# Altium footprint library con-molex-micro-fit-3_0_2.PCBLIB: 194 footprints (part 7 of 13)
Each footprint in its own frame and in the unit in brackets; x right, y up, seen from the top. Pads: shape width x height; smd on the part's side, far side on the other; paste and mask are expansions set on the pad; w line width, h text height; cw(c..) or ccw(c..) is an arc to the next point about the centre after c.
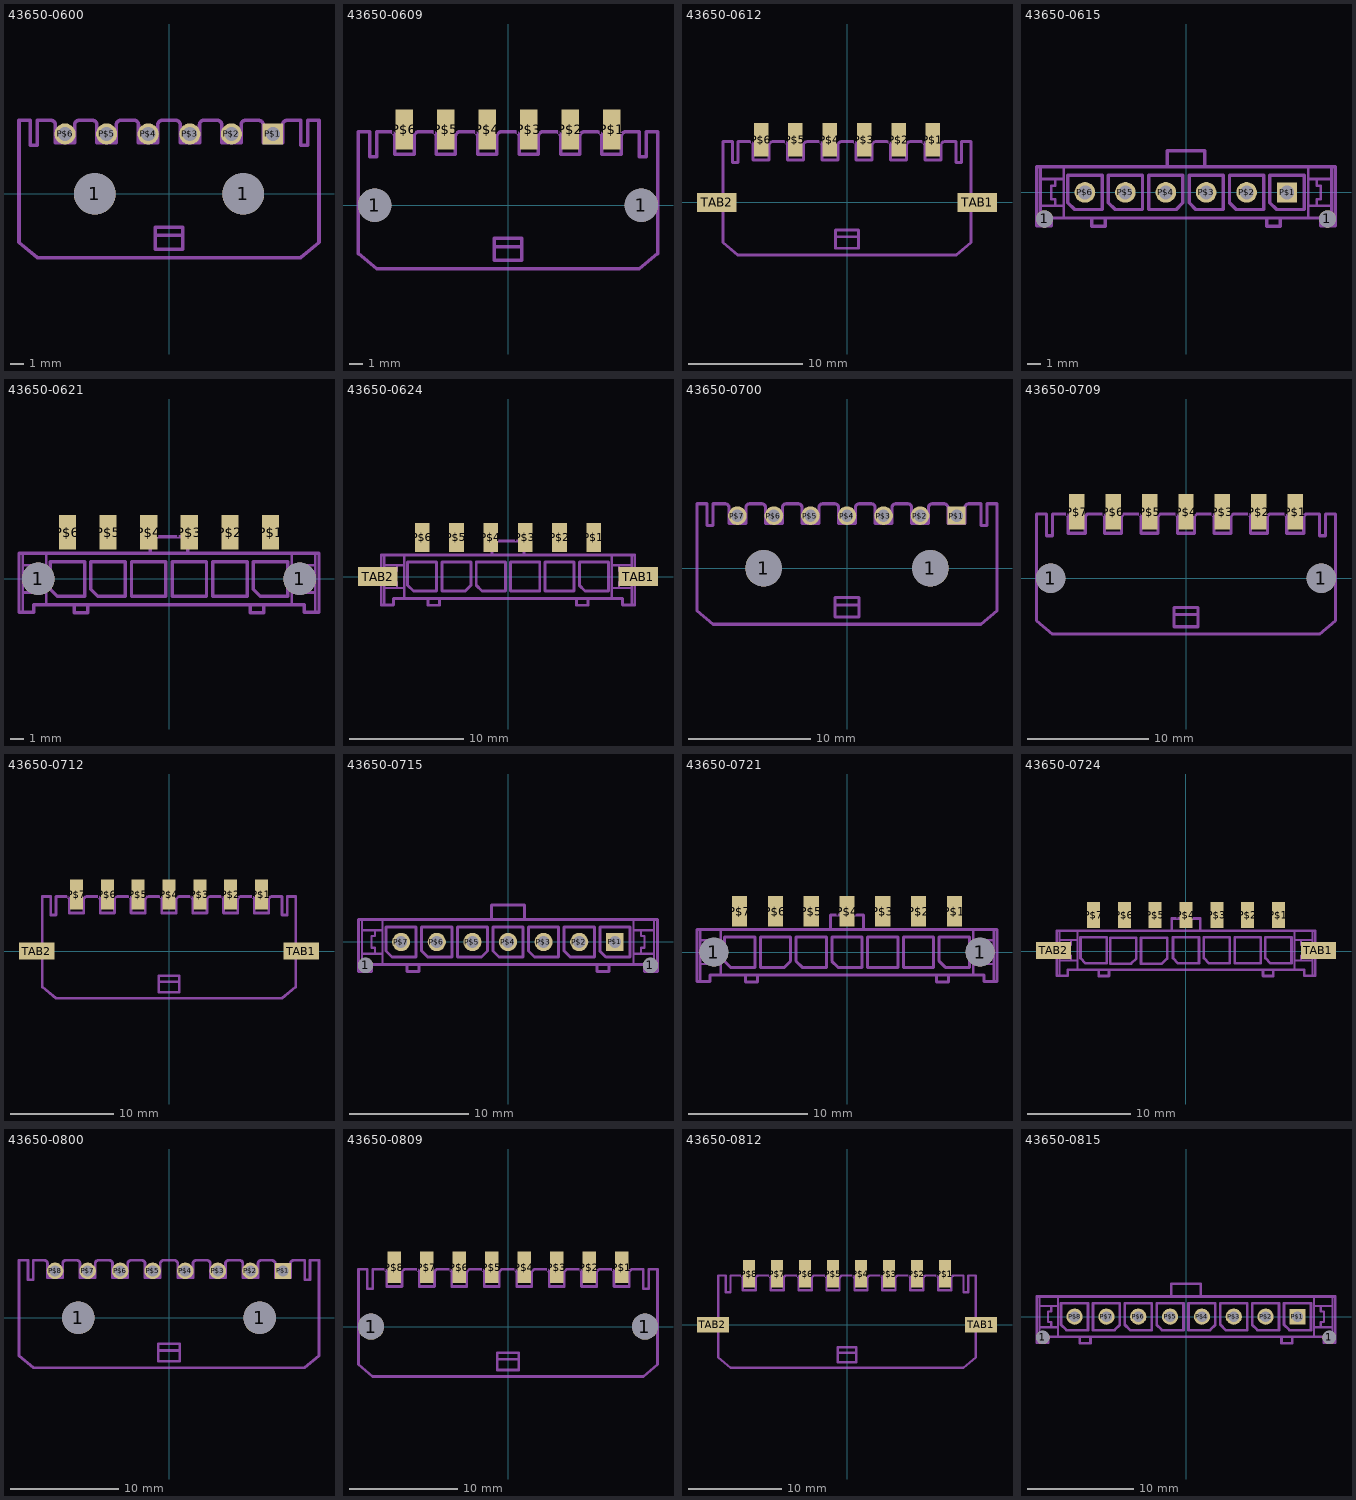
[diagram p6: the footprints below, top view; thin cyan lines are the x and y axes]

## 43650-0600 [mm]
pads (8):
  round 3 hole 3 unplated: 1(-5.35,0) 1(5.35,0)
  rect 1.482x1.482 / inner rect 1.524x1.524 / far side rect 1.482x1.482 hole 1.02: P$1(7.5,4.32)
  round 1.53 / inner round 1.524 / far side round 1.53 hole 1.02: P$2(4.5,4.32) P$3(1.5,4.32) P$4(-1.5,4.32) P$5(-4.5,4.32) P$6(-7.5,4.32)
Mechanical 22:
  lines w0.254: -1,-3 -1,-4 1,-4 1,-3 ; -1,-3 -1,-2.4 1,-2.4 1,-3 ; -1,-3 1,-3 ; -10.82,-3.5 -10.82,5.3 -10,5.3 -10,3.5 -9.5,3.5 -9.5,5.3 -8.5,5.3 cw(c-8.5,5) -8.2,5 -8.2,3.7 -6.8,3.7 -6.8,5 cw(c-6.5,5) -6.5,5.3 -5.5,5.3 cw(c-5.5,5) -5.2,5 -5.2,3.7 -3.8,3.7 -3.8,5 cw(c-3.5,5) -3.5,5.3 -2.5,5.3 cw(c-2.5,5) -2.2,5 -2.2,3.7 -0.8,3.7 -0.8,5 cw(c-0.5,5) -0.5,5.3 0.5,5.3 cw(c0.5,5) 0.8,5 0.8,3.7 2.2,3.7 2.2,5 cw(c2.5,5) 2.5,5.3 3.5,5.3 cw(c3.5,5) 3.8,5 3.8,3.7 5.2,3.7 5.2,5 cw(c5.5,5) 5.5,5.3 6.5,5.3 cw(c6.45,4.95) 6.8,5 6.8,3.7 8.2,3.7 8.2,5 cw(c8.5,5) 8.5,5.3 9.5,5.3 9.5,3.5 10,3.5 10,5.3 10.82,5.3 10.82,-3.5 9.5,-4.6 -9.5,-4.6 -10.82,-3.5

## 43650-0609 [mm]
pads (8):
  round 2.41 hole 2.41 unplated: 1(-9.65,0) 1(9.65,0)
  rect 1.27x2.92 smd: P$1(7.5,5.48) P$2(4.5,5.48) P$3(1.5,5.48) P$4(-1.5,5.48) P$5(-4.5,5.48) P$6(-7.5,5.48)
Mechanical 22:
  lines w0.254: -1,-3 -1,-4 1,-4 1,-3 ; -1,-3 -1,-2.4 1,-2.4 1,-3 ; -1,-3 1,-3 ; -10.82,-3.5 -10.82,5.3 -10,5.3 -10,3.5 -9.5,3.5 -9.5,5.3 -8.5,5.3 cw(c-8.5,5) -8.2,5 -8.2,3.7 -6.8,3.7 -6.8,5 cw(c-6.5,5) -6.5,5.3 -5.5,5.3 cw(c-5.5,5) -5.2,5 -5.2,3.7 -3.8,3.7 -3.8,5 cw(c-3.5,5) -3.5,5.3 -2.5,5.3 cw(c-2.5,5) -2.2,5 -2.2,3.7 -0.8,3.7 -0.8,5 cw(c-0.5,5) -0.5,5.3 0.5,5.3 cw(c0.5,5) 0.8,5 0.8,3.7 2.2,3.7 2.2,5 cw(c2.5,5) 2.5,5.3 3.5,5.3 cw(c3.5,5) 3.8,5 3.8,3.7 5.2,3.7 5.2,5 cw(c5.5,5) 5.5,5.3 6.5,5.3 cw(c6.45,4.95) 6.8,5 6.8,3.7 8.2,3.7 8.2,5 cw(c8.5,5) 8.5,5.3 9.5,5.3 9.5,3.5 10,3.5 10,5.3 10.82,5.3 10.82,-3.5 9.5,-4.6 -9.5,-4.6 -10.82,-3.5

## 43650-0612 [mm]
pads (8):
  rect 1.27x2.92 smd: P$1(7.5,5.48) P$2(4.5,5.48) P$3(1.5,5.48) P$4(-1.5,5.48) P$5(-4.5,5.48) P$6(-7.5,5.48)
  rect 3.43x1.65 smd: TAB1(11.38,0) TAB2(-11.38,0)
Mechanical 22:
  lines w0.254: -1,-3 -1,-4 1,-4 1,-3 ; -1,-3 -1,-2.4 1,-2.4 1,-3 ; -1,-3 1,-3 ; -10.82,-3.5 -10.82,5.3 -10,5.3 -10,3.5 -9.5,3.5 -9.5,5.3 -8.5,5.3 cw(c-8.5,5) -8.2,5 -8.2,3.7 -6.8,3.7 -6.8,5 cw(c-6.5,5) -6.5,5.3 -5.5,5.3 cw(c-5.5,5) -5.2,5 -5.2,3.7 -3.8,3.7 -3.8,5 cw(c-3.5,5) -3.5,5.3 -2.5,5.3 cw(c-2.5,5) -2.2,5 -2.2,3.7 -0.8,3.7 -0.8,5 cw(c-0.5,5) -0.5,5.3 0.5,5.3 cw(c0.5,5) 0.8,5 0.8,3.7 2.2,3.7 2.2,5 cw(c2.5,5) 2.5,5.3 3.5,5.3 cw(c3.5,5) 3.8,5 3.8,3.7 5.2,3.7 5.2,5 cw(c5.5,5) 5.5,5.3 6.5,5.3 cw(c6.45,4.95) 6.8,5 6.8,3.7 8.2,3.7 8.2,5 cw(c8.5,5) 8.5,5.3 9.5,5.3 9.5,3.5 10,3.5 10,5.3 10.82,5.3 10.82,-3.5 9.5,-4.6 -9.5,-4.6 -10.82,-3.5

## 43650-0615 [mm]
pads (8):
  round 1.27 hole 1.27 unplated: 1(-10.5,-1.96) 1(10.5,-1.96)
  rect 1.482x1.482 / inner rect 1.524x1.524 / far side rect 1.482x1.482 hole 1.02: P$1(7.5,0)
  round 1.53 / inner round 1.524 / far side round 1.53 hole 1.02: P$2(4.5,0) P$3(1.5,0) P$4(-1.5,0) P$5(-4.5,0) P$6(-7.5,0)
Mechanical 22:
  lines w0.2: -10.8,-2.47 -10.8,-1 ; -10.8,1.9 -10.8,1 ; -9.07,-1.9 -9.07,-1 ; -9.07,1.9 -9.07,1 ; 9.07,-1.9 9.07,-1 ; 9.07,1.9 9.07,1 ; 10.8,-2.47 10.8,-1 ; 10.8,1.9 10.8,1 ; -10.8,-1 -10.8,1 ; -10.8,-1 -9.7,-1 ; -10.8,1 -9.7,1 ; -9.7,-1 -9.07,-1 ; -9.7,-1 -9.7,-0.5 -10,-0.5 -10,0.5 -9.7,0.5 -9.7,1 ; -9.7,1 -9.07,1 ; -9.07,-1 -9.07,1 ; 9.07,-1 9.07,1 ; 9.07,-1 9.7,-1 ; 9.07,1 9.7,1 ; 9.7,-1 10.8,-1 ; 9.7,-1 9.7,-0.5 10,-0.5 10,0.5 9.7,0.5 9.7,1 ; 9.7,1 10.8,1 ; 10.8,-1 10.8,1
  lines w0.254: -7,-1.9 -6,-1.9 ; -7,-1.9 -9.07,-1.9 -10,-1.9 -10,-2.47 -10.8,-2.47 -11.075,-2.47 -11.075,1.9 -10.8,1.9 -9.07,1.9 -1.4,1.9 ; -7,-1.9 -7,-2.5 -6,-2.5 -6,-1.9 ; -6,-1.9 6,-1.9 ; -1.4,1.9 1.4,1.9 ; -1.4,1.9 -1.4,3.1 1.4,3.1 1.4,1.9 ; 1.4,1.9 9.07,1.9 10.8,1.9 11.075,1.9 11.075,-2.47 10.8,-2.47 10,-2.47 10,-1.9 9.07,-1.9 7,-1.9 ; 6,-1.9 7,-1.9 ; 6,-1.9 6,-2.5 7,-2.5 7,-1.9 ; -8.77,-0.762 -8.77,1.27 -6.23,1.27 -6.23,-1.27 -8.262,-1.27 -8.77,-0.762 ; -5.77,-0.762 -5.77,1.27 -3.23,1.27 -3.23,-1.27 -5.262,-1.27 -5.77,-0.762 ; -2.77,-1.27 -2.77,1.27 -0.23,1.27 -0.23,-0.762 -0.738,-1.27 -2.77,-1.27 ; 0.23,-0.762 0.23,1.27 2.77,1.27 2.77,-1.27 0.738,-1.27 0.23,-0.762 ; 3.23,-0.762 3.23,1.27 5.77,1.27 5.77,-1.27 3.738,-1.27 3.23,-0.762 ; 6.23,-0.762 6.23,1.27 8.77,1.27 8.77,-1.27 6.738,-1.27 6.23,-0.762

## 43650-0621 [mm]
pads (8):
  round 2.41 hole 2.41 unplated: 1(-9.65,0) 1(9.65,0)
  rect 1.27x2.54 smd: P$1(7.5,3.43) P$2(4.5,3.43) P$3(1.5,3.43) P$4(-1.5,3.43) P$5(-4.5,3.43) P$6(-7.5,3.43)
Mechanical 22:
  lines w0.2: -10.8,-2.47 -10.8,-1 ; -10.8,1.9 -10.8,1 ; -9.07,-1.9 -9.07,-1 ; -9.07,1.9 -9.07,1 ; 9.07,-1.9 9.07,-1 ; 9.07,1.9 9.07,1 ; 10.8,-2.47 10.8,-1 ; 10.8,1.9 10.8,1 ; -10.8,-1 -10.8,1 ; -10.8,-1 -9.7,-1 ; -10.8,1 -9.7,1 ; -9.7,-1 -9.07,-1 ; -9.7,-1 -9.7,-0.5 -10,-0.5 -10,0.5 -9.7,0.5 -9.7,1 ; -9.7,1 -9.07,1 ; -9.07,-1 -9.07,1 ; 9.07,-1 9.07,1 ; 9.07,-1 9.7,-1 ; 9.07,1 9.7,1 ; 9.7,-1 10.8,-1 ; 9.7,-1 9.7,-0.5 10,-0.5 10,0.5 9.7,0.5 9.7,1 ; 9.7,1 10.8,1 ; 10.8,-1 10.8,1
  lines w0.254: -7,-1.9 -6,-1.9 ; -7,-1.9 -9.07,-1.9 -10,-1.9 -10,-2.47 -10.8,-2.47 -11.075,-2.47 -11.075,1.9 -10.8,1.9 -9.07,1.9 -1.4,1.9 ; -7,-1.9 -7,-2.5 -6,-2.5 -6,-1.9 ; -6,-1.9 6,-1.9 ; -1.4,1.9 1.4,1.9 ; -1.4,1.9 -1.4,3.1 1.4,3.1 1.4,1.9 ; 1.4,1.9 9.07,1.9 10.8,1.9 11.075,1.9 11.075,-2.47 10.8,-2.47 10,-2.47 10,-1.9 9.07,-1.9 7,-1.9 ; 6,-1.9 7,-1.9 ; 6,-1.9 6,-2.5 7,-2.5 7,-1.9 ; -8.77,-0.762 -8.77,1.27 -6.23,1.27 -6.23,-1.27 -8.262,-1.27 -8.77,-0.762 ; -5.77,-0.762 -5.77,1.27 -3.23,1.27 -3.23,-1.27 -5.262,-1.27 -5.77,-0.762 ; -2.77,-1.27 -0.23,-1.27 -0.23,1.27 -2.77,1.27 -2.77,-1.27 ; 0.23,-1.27 2.77,-1.27 2.77,1.27 0.23,1.27 0.23,-1.27 ; 3.23,-1.27 5.77,-1.27 5.77,1.27 3.23,1.27 3.23,-1.27 ; 6.23,-0.762 6.23,1.27 8.77,1.27 8.77,-1.27 6.738,-1.27 6.23,-0.762

## 43650-0624 [mm]
pads (8):
  rect 1.27x2.54 smd: P$1(7.5,3.43) P$2(4.5,3.43) P$3(1.5,3.43) P$4(-1.5,3.43) P$5(-4.5,3.43) P$6(-7.5,3.43)
  rect 3.43x1.65 smd: TAB1(11.39,0) TAB2(-11.39,0)
Mechanical 22:
  lines w0.2: -10.8,-2.47 -10.8,-1 ; -10.8,1.9 -10.8,1 ; -9.07,-1.9 -9.07,-1 ; -9.07,1.9 -9.07,1 ; 9.07,-1.9 9.07,-1 ; 9.07,1.9 9.07,1 ; 10.8,-2.47 10.8,-1 ; 10.8,1.9 10.8,1 ; -10.8,-1 -10.8,1 ; -10.8,-1 -9.7,-1 ; -10.8,1 -9.7,1 ; -9.7,-1 -9.07,-1 ; -9.7,-1 -9.7,-0.5 -10,-0.5 -10,0.5 -9.7,0.5 -9.7,1 ; -9.7,1 -9.07,1 ; -9.07,-1 -9.07,1 ; 9.07,-1 9.07,1 ; 9.07,-1 9.7,-1 ; 9.07,1 9.7,1 ; 9.7,-1 10.8,-1 ; 9.7,-1 9.7,-0.5 10,-0.5 10,0.5 9.7,0.5 9.7,1 ; 9.7,1 10.8,1 ; 10.8,-1 10.8,1
  lines w0.254: -7,-1.9 -6,-1.9 ; -7,-1.9 -9.07,-1.9 -10,-1.9 -10,-2.47 -10.8,-2.47 -11.075,-2.47 -11.075,1.9 -10.8,1.9 -9.07,1.9 -1.4,1.9 ; -7,-1.9 -7,-2.5 -6,-2.5 -6,-1.9 ; -6,-1.9 6,-1.9 ; -1.4,1.9 1.4,1.9 ; -1.4,1.9 -1.4,3.1 1.4,3.1 1.4,1.9 ; 1.4,1.9 9.07,1.9 10.8,1.9 11.075,1.9 11.075,-2.47 10.8,-2.47 10,-2.47 10,-1.9 9.07,-1.9 7,-1.9 ; 6,-1.9 7,-1.9 ; 6,-1.9 6,-2.5 7,-2.5 7,-1.9 ; -8.77,-0.762 -8.77,1.27 -6.23,1.27 -6.23,-1.27 -8.262,-1.27 -8.77,-0.762 ; -2.77,-0.762 -2.77,1.27 -0.23,1.27 -0.23,-1.27 -2.262,-1.27 -2.77,-0.762 ; 0.23,-1.27 2.77,-1.27 2.77,1.27 0.23,1.27 0.23,-1.27 ; 3.23,-1.27 5.77,-1.27 5.77,1.27 3.23,1.27 3.23,-1.27 ; 6.23,-0.762 6.23,1.27 8.77,1.27 8.77,-1.27 6.738,-1.27 6.23,-0.762
Mechanical 23:
  lines w0.254: -5.77,-1.27 -5.77,1.27 -3.23,1.27 -3.23,-0.762 -3.738,-1.27 -5.77,-1.27

## 43650-0700 [mm]
pads (9):
  round 3 hole 3 unplated: 1(-6.85,0) 1(6.85,0)
  rect 1.482x1.482 / inner rect 1.524x1.524 / far side rect 1.482x1.482 hole 1.02: P$1(9,4.32)
  round 1.53 / inner round 1.524 / far side round 1.53 hole 1.02: P$2(6,4.32) P$3(3,4.32) P$4(0,4.32) P$5(-3,4.32) P$6(-6,4.32) P$7(-9,4.32)
Mechanical 22:
  lines w0.254: -1,-3 -1,-4 1,-4 1,-3 ; -1,-3 -1,-2.4 1,-2.4 1,-3 ; -1,-3 1,-3 ; -12.32,-3.5 -12.32,5.3 -11.5,5.3 -11.5,3.5 -11,3.5 -11,5.3 -10,5.3 cw(c-10,5) -9.7,5 -9.7,3.7 -8.3,3.7 -8.3,5 cw(c-8,5) -8,5.3 -7,5.3 cw(c-7,5) -6.7,5 -6.7,3.7 -5.3,3.7 -5.3,5 cw(c-5,5) -5,5.3 -4,5.3 cw(c-4,5) -3.7,5 -3.7,3.7 -2.3,3.7 -2.3,5 cw(c-2,5) -2,5.3 -1,5.3 cw(c-1,5) -0.7,5 -0.7,3.7 0.7,3.7 0.7,5 cw(c1,5) 1,5.3 2,5.3 cw(c2,5) 2.3,5 2.3,3.7 3.7,3.7 3.7,5 cw(c4,5) 4,5.3 5,5.3 cw(c5,5) 5.3,5 5.3,3.7 6.7,3.7 6.7,5 cw(c7,5) 7,5.3 8,5.3 cw(c7.95,4.95) 8.3,5 8.3,3.7 9.7,3.7 9.7,5 cw(c10,5) 10,5.3 11,5.3 11,3.5 11.5,3.5 11.5,5.3 12.32,5.3 12.32,-3.5 11,-4.6 -11,-4.6 -12.32,-3.5

## 43650-0709 [mm]
pads (9):
  round 2.41 hole 2.41 unplated: 1(-11.15,0) 1(11.15,0)
  rect 1.27x2.92 smd: P$1(9,5.48) P$2(6,5.48) P$3(3,5.48) P$4(0,5.48) P$5(-3,5.48) P$6(-6,5.48) P$7(-9,5.48)
Mechanical 22:
  lines w0.254: -1,-3 -1,-4 1,-4 1,-3 ; -1,-3 -1,-2.4 1,-2.4 1,-3 ; -1,-3 1,-3 ; -12.32,-3.5 -12.32,5.3 -11.5,5.3 -11.5,3.5 -11,3.5 -11,5.3 -10,5.3 cw(c-10,5) -9.7,5 -9.7,3.7 -8.3,3.7 -8.3,5 cw(c-8,5) -8,5.3 -7,5.3 cw(c-7,5) -6.7,5 -6.7,3.7 -5.3,3.7 -5.3,5 cw(c-5,5) -5,5.3 -4,5.3 cw(c-4,5) -3.7,5 -3.7,3.7 -2.3,3.7 -2.3,5 cw(c-2,5) -2,5.3 -1,5.3 cw(c-1,5) -0.7,5 -0.7,3.7 0.7,3.7 0.7,5 cw(c1,5) 1,5.3 2,5.3 cw(c2,5) 2.3,5 2.3,3.7 3.7,3.7 3.7,5 cw(c4,5) 4,5.3 5,5.3 cw(c5,5) 5.3,5 5.3,3.7 6.7,3.7 6.7,5 cw(c7,5) 7,5.3 8,5.3 cw(c7.95,4.95) 8.3,5 8.3,3.7 9.7,3.7 9.7,5 cw(c10,5) 10,5.3 11,5.3 11,3.5 11.5,3.5 11.5,5.3 12.32,5.3 12.32,-3.5 11,-4.6 -11,-4.6 -12.32,-3.5

## 43650-0712 [mm]
pads (9):
  rect 1.27x2.92 smd: P$1(9,5.48) P$2(6,5.48) P$3(3,5.48) P$4(0,5.48) P$5(-3,5.48) P$6(-6,5.48) P$7(-9,5.48)
  rect 3.43x1.65 smd: TAB1(12.88,0) TAB2(-12.88,0)
Mechanical 22:
  lines w0.254: -1,-3 -1,-4 1,-4 1,-3 ; -1,-3 -1,-2.4 1,-2.4 1,-3 ; -1,-3 1,-3 ; -12.32,-3.5 -12.32,5.3 -11.5,5.3 -11.5,3.5 -11,3.5 -11,5.3 -10,5.3 cw(c-10,5) -9.7,5 -9.7,3.7 -8.3,3.7 -8.3,5 cw(c-8,5) -8,5.3 -7,5.3 cw(c-7,5) -6.7,5 -6.7,3.7 -5.3,3.7 -5.3,5 cw(c-5,5) -5,5.3 -4,5.3 cw(c-4,5) -3.7,5 -3.7,3.7 -2.3,3.7 -2.3,5 cw(c-2,5) -2,5.3 -1,5.3 cw(c-1,5) -0.7,5 -0.7,3.7 0.7,3.7 0.7,5 cw(c1,5) 1,5.3 2,5.3 cw(c2,5) 2.3,5 2.3,3.7 3.7,3.7 3.7,5 cw(c4,5) 4,5.3 5,5.3 cw(c5,5) 5.3,5 5.3,3.7 6.7,3.7 6.7,5 cw(c7,5) 7,5.3 8,5.3 cw(c7.95,4.95) 8.3,5 8.3,3.7 9.7,3.7 9.7,5 cw(c10,5) 10,5.3 11,5.3 11,3.5 11.5,3.5 11.5,5.3 12.32,5.3 12.32,-3.5 11,-4.6 -11,-4.6 -12.32,-3.5

## 43650-0715 [mm]
pads (9):
  round 1.27 hole 1.27 unplated: 1(-12,-1.96) 1(12,-1.96)
  rect 1.482x1.482 / inner rect 1.524x1.524 / far side rect 1.482x1.482 hole 1.02: P$1(9,0)
  round 1.53 / inner round 1.524 / far side round 1.53 hole 1.02: P$2(6,0) P$3(3,0) P$4(0,0) P$5(-3,0) P$6(-6,0) P$7(-9,0)
Mechanical 22:
  lines w0.2: -12.3,-2.47 -12.3,-1 ; -12.3,1.9 -12.3,1 ; -10.57,-1.9 -10.57,-1 ; -10.57,1.9 -10.57,1 ; 10.57,-1.9 10.57,-1 ; 10.57,1.9 10.57,1 ; 12.3,-2.47 12.3,-1 ; 12.3,1.9 12.3,1 ; -12.3,-1 -12.3,1 ; -12.3,-1 -11.2,-1 ; -12.3,1 -11.2,1 ; -11.2,-1 -10.57,-1 ; -11.2,-1 -11.2,-0.5 -11.5,-0.5 -11.5,0.5 -11.2,0.5 -11.2,1 ; -11.2,1 -10.57,1 ; -10.57,-1 -10.57,1 ; 10.57,-1 10.57,1 ; 10.57,-1 11.2,-1 ; 10.57,1 11.2,1 ; 11.2,-1 12.3,-1 ; 11.2,-1 11.2,-0.5 11.5,-0.5 11.5,0.5 11.2,0.5 11.2,1 ; 11.2,1 12.3,1 ; 12.3,-1 12.3,1
  lines w0.254: -8.5,-1.9 -7.5,-1.9 ; -8.5,-1.9 -10.57,-1.9 -11.5,-1.9 -11.5,-2.47 -12.3,-2.47 -12.575,-2.47 -12.575,1.9 -12.3,1.9 -10.57,1.9 -1.4,1.9 ; -8.5,-1.9 -8.5,-2.5 -7.5,-2.5 -7.5,-1.9 ; -7.5,-1.9 7.5,-1.9 ; -1.4,1.9 1.4,1.9 ; -1.4,1.9 -1.4,3.1 1.4,3.1 1.4,1.9 ; 1.4,1.9 10.57,1.9 12.3,1.9 12.575,1.9 12.575,-2.47 12.3,-2.47 11.5,-2.47 11.5,-1.9 10.57,-1.9 8.5,-1.9 ; 7.5,-1.9 8.5,-1.9 ; 7.5,-1.9 7.5,-2.5 8.5,-2.5 8.5,-1.9 ; -10.27,-0.762 -10.27,1.27 -7.73,1.27 -7.73,-1.27 -9.762,-1.27 -10.27,-0.762 ; -7.27,-0.762 -7.27,1.27 -4.73,1.27 -4.73,-1.27 -6.762,-1.27 -7.27,-0.762 ; -4.27,-1.27 -4.27,1.27 -1.73,1.27 -1.73,-0.762 -2.238,-1.27 -4.27,-1.27 ; -1.27,-0.762 -1.27,1.27 1.27,1.27 1.27,-1.27 -0.762,-1.27 -1.27,-0.762 ; 1.73,-0.762 1.73,1.27 4.27,1.27 4.27,-1.27 2.238,-1.27 1.73,-0.762 ; 4.73,-0.762 4.73,1.27 7.27,1.27 7.27,-1.27 5.238,-1.27 4.73,-0.762 ; 7.73,-0.762 7.73,1.27 10.27,1.27 10.27,-1.27 8.238,-1.27 7.73,-0.762

## 43650-0721 [mm]
pads (9):
  round 2.41 hole 2.41 unplated: 1(-11.15,0) 1(11.15,0)
  rect 1.27x2.54 smd: P$1(9,3.43) P$2(6,3.43) P$3(3,3.43) P$4(0,3.43) P$5(-3,3.43) P$6(-6,3.43) P$7(-9,3.43)
Mechanical 22:
  lines w0.2: -12.3,-2.47 -12.3,-1 ; -12.3,1.9 -12.3,1 ; -10.57,-1.9 -10.57,-1 ; -10.57,1.9 -10.57,1 ; 10.57,-1.9 10.57,-1 ; 10.57,1.9 10.57,1 ; 12.3,-2.47 12.3,-1 ; 12.3,1.9 12.3,1 ; -12.3,-1 -12.3,1 ; -12.3,-1 -11.2,-1 ; -12.3,1 -11.2,1 ; -11.2,-1 -10.57,-1 ; -11.2,-1 -11.2,-0.5 -11.5,-0.5 -11.5,0.5 -11.2,0.5 -11.2,1 ; -11.2,1 -10.57,1 ; -10.57,-1 -10.57,1 ; 10.57,-1 10.57,1 ; 10.57,-1 11.2,-1 ; 10.57,1 11.2,1 ; 11.2,-1 12.3,-1 ; 11.2,-1 11.2,-0.5 11.5,-0.5 11.5,0.5 11.2,0.5 11.2,1 ; 11.2,1 12.3,1 ; 12.3,-1 12.3,1
  lines w0.254: -8.5,-1.9 -7.5,-1.9 ; -8.5,-1.9 -10.57,-1.9 -11.5,-1.9 -11.5,-2.47 -12.3,-2.47 -12.575,-2.47 -12.575,1.9 -12.3,1.9 -10.57,1.9 -1.4,1.9 ; -8.5,-1.9 -8.5,-2.5 -7.5,-2.5 -7.5,-1.9 ; -7.5,-1.9 7.5,-1.9 ; -1.4,1.9 1.4,1.9 ; -1.4,1.9 -1.4,3.1 1.4,3.1 1.4,1.9 ; 1.4,1.9 10.57,1.9 12.3,1.9 12.575,1.9 12.575,-2.47 12.3,-2.47 11.5,-2.47 11.5,-1.9 10.57,-1.9 8.5,-1.9 ; 7.5,-1.9 8.5,-1.9 ; 7.5,-1.9 7.5,-2.5 8.5,-2.5 8.5,-1.9 ; -10.27,-0.762 -10.27,1.27 -7.73,1.27 -7.73,-1.27 -9.762,-1.27 -10.27,-0.762 ; -7.27,-1.27 -7.27,1.27 -4.73,1.27 -4.73,-0.762 -5.238,-1.27 -7.27,-1.27 ; -4.27,-0.762 -4.27,1.27 -1.73,1.27 -1.73,-1.27 -3.762,-1.27 -4.27,-0.762 ; -1.27,-0.762 -1.27,1.27 1.27,1.27 1.27,-1.27 -0.762,-1.27 -1.27,-0.762 ; 1.73,-1.27 4.27,-1.27 4.27,1.27 1.73,1.27 1.73,-1.27 ; 4.73,-1.27 7.27,-1.27 7.27,1.27 4.73,1.27 4.73,-1.27 ; 7.73,-0.762 7.73,1.27 10.27,1.27 10.27,-1.27 8.238,-1.27 7.73,-0.762

## 43650-0724 [mm]
pads (9):
  rect 1.27x2.54 smd: P$1(9.036,3.503) P$2(6.036,3.503) P$3(3.036,3.503) P$4(0.036,3.503) P$5(-2.964,3.503) P$6(-5.964,3.503) P$7(-8.964,3.503)
  rect 3.43x1.65 smd: TAB1(12.926,0.073) TAB2(-12.854,0.073)
Mechanical 22:
  lines w0.2: -12.264,-2.397 -12.264,-0.927 ; -12.264,1.973 -12.264,1.073 ; -10.534,-1.827 -10.534,-0.927 ; -10.534,1.973 -10.534,1.073 ; 10.606,-1.827 10.606,-0.927 ; 10.606,1.973 10.606,1.073 ; 12.337,-2.397 12.337,-0.927 ; 12.337,1.973 12.337,1.073 ; -12.264,-0.927 -12.264,1.073 ; -12.264,-0.927 -11.164,-0.927 ; -12.264,1.073 -11.164,1.073 ; -11.164,-0.927 -10.534,-0.927 ; -11.164,-0.927 -11.164,-0.427 -11.464,-0.427 -11.464,0.573 -11.164,0.573 -11.164,1.073 ; -11.164,1.073 -10.534,1.073 ; -10.534,-0.927 -10.534,1.073 ; 10.606,-0.927 10.606,1.073 ; 10.606,-0.927 11.236,-0.927 ; 10.606,1.073 11.236,1.073 ; 11.236,-0.927 12.337,-0.927 ; 11.236,-0.927 11.236,-0.427 11.536,-0.427 11.536,0.573 11.236,0.573 11.236,1.073 ; 11.236,1.073 12.337,1.073 ; 12.337,-0.927 12.337,1.073
  lines w0.254: -8.464,-1.827 -7.464,-1.827 ; -8.464,-1.827 -10.534,-1.827 -11.464,-1.827 -11.464,-2.397 -12.264,-2.397 -12.539,-2.397 -12.539,1.973 -12.264,1.973 -10.534,1.973 -1.364,1.973 ; -8.464,-1.827 -8.464,-2.427 -7.464,-2.427 -7.464,-1.827 ; -7.464,-1.827 7.536,-1.827 ; -1.364,1.973 1.436,1.973 ; -1.364,1.973 -1.364,3.173 1.436,3.173 1.436,1.973 ; 1.436,1.973 10.606,1.973 12.337,1.973 12.611,1.973 12.611,-2.397 12.337,-2.397 11.536,-2.397 11.536,-1.827 10.606,-1.827 8.536,-1.827 ; 7.536,-1.827 8.536,-1.827 ; 7.536,-1.827 7.536,-2.427 8.536,-2.427 8.536,-1.827 ; -10.234,-0.689 -10.234,1.343 -7.694,1.343 -7.694,-1.197 -9.726,-1.197 -10.234,-0.689 ; -7.343,-1.234 -7.343,1.306 -4.803,1.306 -4.803,-0.726 -5.311,-1.234 -7.343,-1.234 ; -4.343,-1.234 -4.343,1.306 -1.803,1.306 -1.803,-0.726 -2.311,-1.234 -4.343,-1.234 ; -1.234,-0.689 -1.234,1.343 1.306,1.343 1.306,-1.197 -0.726,-1.197 -1.234,-0.689 ; 1.766,-0.689 1.766,1.343 4.306,1.343 4.306,-1.197 2.274,-1.197 1.766,-0.689 ; 4.766,-1.197 7.306,-1.197 7.306,1.343 4.766,1.343 4.766,-1.197 ; 7.766,-0.689 7.766,1.343 10.306,1.343 10.306,-1.197 8.274,-1.197 7.766,-0.689

## 43650-0800 [mm]
pads (10):
  round 3 hole 3 unplated: 1(-8.35,0) 1(8.35,0)
  rect 1.482x1.482 / inner rect 1.524x1.524 / far side rect 1.482x1.482 hole 1.02: P$1(10.5,4.32)
  round 1.53 / inner round 1.524 / far side round 1.53 hole 1.02: P$2(7.5,4.32) P$3(4.5,4.32) P$4(1.5,4.32) P$5(-1.5,4.32) P$6(-4.5,4.32) P$7(-7.5,4.32) P$8(-10.5,4.32)
Mechanical 22:
  lines w0.254: -1,-3 -1,-4 1,-4 1,-3 ; -1,-3 -1,-2.4 1,-2.4 1,-3 ; -1,-3 1,-3 ; -13.82,-3.5 -13.82,5.3 -13,5.3 -13,3.5 -12.5,3.5 -12.5,5.3 -11.5,5.3 cw(c-11.5,5) -11.2,5 -11.2,3.7 -9.8,3.7 -9.8,5 cw(c-9.5,5) -9.5,5.3 -8.5,5.3 cw(c-8.5,5) -8.2,5 -8.2,3.7 -6.8,3.7 -6.8,5 cw(c-6.5,5) -6.5,5.3 -5.5,5.3 cw(c-5.5,5) -5.2,5 -5.2,3.7 -3.8,3.7 -3.8,5 cw(c-3.5,5) -3.5,5.3 -2.5,5.3 cw(c-2.5,5) -2.2,5 -2.2,3.7 -0.8,3.7 -0.8,5 cw(c-0.5,5) -0.5,5.3 0.5,5.3 cw(c0.5,5) 0.8,5 0.8,3.7 2.2,3.7 2.2,5 cw(c2.5,5) 2.5,5.3 3.5,5.3 cw(c3.5,5) 3.8,5 3.8,3.7 5.2,3.7 5.2,5 cw(c5.5,5) 5.5,5.3 6.5,5.3 cw(c6.5,5) 6.8,5 6.8,3.7 8.2,3.7 8.2,5 cw(c8.5,5) 8.5,5.3 9.5,5.3 cw(c9.45,4.95) 9.8,5 9.8,3.7 11.2,3.7 11.2,5 cw(c11.5,5) 11.5,5.3 12.5,5.3 12.5,3.5 13,3.5 13,5.3 13.82,5.3 13.82,-3.5 12.5,-4.6 -12.5,-4.6 -13.82,-3.5

## 43650-0809 [mm]
pads (10):
  round 2.41 hole 2.41 unplated: 1(-12.65,0) 1(12.65,0)
  rect 1.27x2.92 smd: P$1(10.5,5.48) P$2(7.5,5.48) P$3(4.5,5.48) P$4(1.5,5.48) P$5(-1.5,5.48) P$6(-4.5,5.48) P$7(-7.5,5.48) P$8(-10.5,5.48)
Mechanical 22:
  lines w0.254: -1,-3 -1,-4 1,-4 1,-3 ; -1,-3 -1,-2.4 1,-2.4 1,-3 ; -1,-3 1,-3 ; -13.82,-3.5 -13.82,5.3 -13,5.3 -13,3.5 -12.5,3.5 -12.5,5.3 -11.5,5.3 cw(c-11.5,5) -11.2,5 -11.2,3.7 -9.8,3.7 -9.8,5 cw(c-9.5,5) -9.5,5.3 -8.5,5.3 cw(c-8.5,5) -8.2,5 -8.2,3.7 -6.8,3.7 -6.8,5 cw(c-6.5,5) -6.5,5.3 -5.5,5.3 cw(c-5.5,5) -5.2,5 -5.2,3.7 -3.8,3.7 -3.8,5 cw(c-3.5,5) -3.5,5.3 -2.5,5.3 cw(c-2.5,5) -2.2,5 -2.2,3.7 -0.8,3.7 -0.8,5 cw(c-0.5,5) -0.5,5.3 0.5,5.3 cw(c0.5,5) 0.8,5 0.8,3.7 2.2,3.7 2.2,5 cw(c2.5,5) 2.5,5.3 3.5,5.3 cw(c3.5,5) 3.8,5 3.8,3.7 5.2,3.7 5.2,5 cw(c5.5,5) 5.5,5.3 6.5,5.3 cw(c6.5,5) 6.8,5 6.8,3.7 8.2,3.7 8.2,5 cw(c8.5,5) 8.5,5.3 9.5,5.3 cw(c9.45,4.95) 9.8,5 9.8,3.7 11.2,3.7 11.2,5 cw(c11.5,5) 11.5,5.3 12.5,5.3 12.5,3.5 13,3.5 13,5.3 13.82,5.3 13.82,-3.5 12.5,-4.6 -12.5,-4.6 -13.82,-3.5

## 43650-0812 [mm]
pads (10):
  rect 1.27x2.92 smd: P$1(10.5,5.48) P$2(7.5,5.48) P$3(4.5,5.48) P$4(1.5,5.48) P$5(-1.5,5.48) P$6(-4.5,5.48) P$7(-7.5,5.48) P$8(-10.5,5.48)
  rect 3.43x1.65 smd: TAB1(14.38,0) TAB2(-14.38,0)
Mechanical 22:
  lines w0.254: -1,-3 -1,-4 1,-4 1,-3 ; -1,-3 -1,-2.4 1,-2.4 1,-3 ; -1,-3 1,-3 ; -13.82,-3.5 -13.82,5.3 -13,5.3 -13,3.5 -12.5,3.5 -12.5,5.3 -11.5,5.3 cw(c-11.5,5) -11.2,5 -11.2,3.7 -9.8,3.7 -9.8,5 cw(c-9.5,5) -9.5,5.3 -8.5,5.3 cw(c-8.5,5) -8.2,5 -8.2,3.7 -6.8,3.7 -6.8,5 cw(c-6.5,5) -6.5,5.3 -5.5,5.3 cw(c-5.5,5) -5.2,5 -5.2,3.7 -3.8,3.7 -3.8,5 cw(c-3.5,5) -3.5,5.3 -2.5,5.3 cw(c-2.5,5) -2.2,5 -2.2,3.7 -0.8,3.7 -0.8,5 cw(c-0.5,5) -0.5,5.3 0.5,5.3 cw(c0.5,5) 0.8,5 0.8,3.7 2.2,3.7 2.2,5 cw(c2.5,5) 2.5,5.3 3.5,5.3 cw(c3.5,5) 3.8,5 3.8,3.7 5.2,3.7 5.2,5 cw(c5.5,5) 5.5,5.3 6.5,5.3 cw(c6.5,5) 6.8,5 6.8,3.7 8.2,3.7 8.2,5 cw(c8.5,5) 8.5,5.3 9.5,5.3 cw(c9.45,4.95) 9.8,5 9.8,3.7 11.2,3.7 11.2,5 cw(c11.5,5) 11.5,5.3 12.5,5.3 12.5,3.5 13,3.5 13,5.3 13.82,5.3 13.82,-3.5 12.5,-4.6 -12.5,-4.6 -13.82,-3.5

## 43650-0815 [mil]
pads (10):
  round 50 hole 50 unplated: 1(-531.5,-77.17) 1(531.5,-77.17)
  rect 58.33x58.33 / inner rect 60x60 / far side rect 58.33x58.33 hole 40.16: P$1(413.39,0)
  round 60.24 / inner round 60 / far side round 60.24 hole 40.16: P$2(295.28,0) P$3(177.17,0) P$4(59.06,0) P$5(-59.06,0) P$6(-177.17,0) P$7(-295.28,0) P$8(-413.39,0)
Mechanical 22:
  lines w7.87: -543.31,-97.24 -543.31,-39.37 ; -543.31,74.8 -543.31,39.37 ; -475.2,-74.8 -475.2,-39.37 ; -475.2,74.8 -475.2,39.37 ; 475.2,-74.8 475.2,-39.37 ; 475.2,74.8 475.2,39.37 ; 543.31,-97.24 543.31,-39.37 ; 543.31,74.8 543.31,39.37 ; -543.31,-39.37 -543.31,39.37 ; -543.31,-39.37 -500,-39.37 ; -543.31,39.37 -500,39.37 ; -500,-39.37 -475.2,-39.37 ; -500,-39.37 -500,-19.69 -511.81,-19.69 -511.81,19.69 -500,19.69 -500,39.37 ; -500,39.37 -475.2,39.37 ; -475.2,-39.37 -475.2,39.37 ; 475.2,-39.37 475.2,39.37 ; 475.2,-39.37 500,-39.37 ; 475.2,39.37 500,39.37 ; 500,-39.37 543.31,-39.37 ; 500,-39.37 500,-19.69 511.81,-19.69 511.81,19.69 500,19.69 500,39.37 ; 500,39.37 543.31,39.37 ; 543.31,-39.37 543.31,39.37
  lines w10: -393.7,-74.8 -354.33,-74.8 ; -393.7,-74.8 -475.2,-74.8 -511.81,-74.8 -511.81,-97.24 -543.31,-97.24 -554.13,-97.24 -554.13,74.8 -543.31,74.8 -475.2,74.8 -55.12,74.8 ; -393.7,-74.8 -393.7,-98.43 -354.33,-98.43 -354.33,-74.8 ; -354.33,-74.8 354.33,-74.8 ; -55.12,74.8 55.12,74.8 ; -55.12,74.8 -55.12,122.05 55.12,122.05 55.12,74.8 ; 55.12,74.8 475.2,74.8 543.31,74.8 554.13,74.8 554.13,-97.24 543.31,-97.24 511.81,-97.24 511.81,-74.8 475.2,-74.8 393.7,-74.8 ; 354.33,-74.8 393.7,-74.8 ; 354.33,-74.8 354.33,-98.43 393.7,-98.43 393.7,-74.8 ; -463.39,-30 -463.39,50 -363.39,50 -363.39,-50 -443.39,-50 -463.39,-30 ; -345.28,-50 -345.28,50 -245.28,50 -245.28,-30 -265.28,-50 -345.28,-50 ; -227.17,-30 -227.17,50 -127.17,50 -127.17,-50 -207.17,-50 -227.17,-30 ; -109.06,-30 -109.06,50 -9.06,50 -9.06,-50 -89.06,-50 -109.06,-30 ; 9.06,-50 9.06,50 109.06,50 109.06,-30 89.06,-50 9.06,-50 ; 127.17,-30 127.17,50 227.17,50 227.17,-50 147.17,-50 127.17,-30 ; 245.28,-30 245.28,50 345.28,50 345.28,-50 265.28,-50 245.28,-30 ; 363.39,-30 363.39,50 463.39,50 463.39,-50 383.39,-50 363.39,-30